# Altium schematic symbol library jlcpcb_2025_04_resistors_basic.schlib: 182 symbols (part 4 of 4)
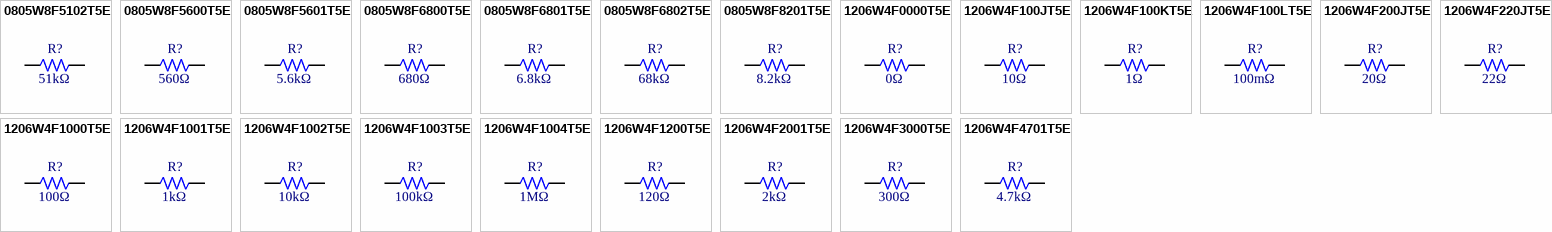
[diagram p7: symbols 0805W8F5102T5E to 1206W4F4701T5E]

## 1206W4F1004T5E
designator R?  Resistance: 1MΩ  (hidden comment: *)
Resistor, 1MΩ, ±1%, 250mW, 200V, ±100ppm/℃, -55℃~+155℃, SMD 1206; Manufacturer: Uniroyal; Manufacturer Part Number: 1206W4F1004T5E; Supplier 1: LCSC; Supplier Part Number 1: C17927; JLCPCB Part Number: C17927; Power Rating: 250mW; Category: Resistors; Package Size: 1206; JLCPCB Basic Part: Yes; Tolerance: ±1%; Voltage Rating: 200V; Temperature Coefficient: ±100ppm/℃; Temperature Rating: -55℃~+155℃; ComponentLink1Description: Datasheet; ComponentLink1URL: https://wmsc.lcsc.com/wmsc/upload/file/pdf/v2/lcsc/2206010145_UNI-ROYAL-Uniroyal-Elec-1206W4F1004T5E_C17927.pdf; ComponentLink2Description: JLCPCB Part URL; ComponentLink2URL: https://jlcpcb.com/partdetail/C17927
footprint RES-1206 (1206 (3216M) Resistor)
pins: 1, 2
1 alternate drawing of the same symbol

## 1206W4F1200T5E
designator R?  Resistance: 120Ω  (hidden comment: *)
Resistor, 120Ω, ±1%, 250mW, 200V, ±100ppm/℃, -55℃~+155℃, SMD 1206; Manufacturer: Uniroyal; Manufacturer Part Number: 1206W4F1200T5E; Supplier 1: LCSC; Supplier Part Number 1: C17909; JLCPCB Part Number: C17909; Power Rating: 250mW; Category: Resistors; Package Size: 1206; JLCPCB Basic Part: Yes; Tolerance: ±1%; Voltage Rating: 200V; Temperature Coefficient: ±100ppm/℃; Temperature Rating: -55℃~+155℃; ComponentLink1Description: Datasheet; ComponentLink1URL: https://wmsc.lcsc.com/wmsc/upload/file/pdf/v2/lcsc/2206010145_UNI-ROYAL-Uniroyal-Elec-1206W4F1200T5E_C17909.pdf; ComponentLink2Description: JLCPCB Part URL; ComponentLink2URL: https://jlcpcb.com/partdetail/C17909
footprint RES-1206 (1206 (3216M) Resistor)
pins: 1, 2
1 alternate drawing of the same symbol

## 1206W4F2001T5E
designator R?  Resistance: 2kΩ  (hidden comment: *)
Resistor, 2kΩ, ±1%, 250mW, 200V, ±100ppm/℃, -55℃~+155℃, SMD 1206; Manufacturer: Uniroyal; Manufacturer Part Number: 1206W4F2001T5E; Supplier 1: LCSC; Supplier Part Number 1: C17944; JLCPCB Part Number: C17944; Power Rating: 250mW; Category: Resistors; Package Size: 1206; JLCPCB Basic Part: Yes; Tolerance: ±1%; Voltage Rating: 200V; Temperature Coefficient: ±100ppm/℃; Temperature Rating: -55℃~+155℃; ComponentLink1Description: Datasheet; ComponentLink1URL: https://wmsc.lcsc.com/wmsc/upload/file/pdf/v2/lcsc/2206010145_UNI-ROYAL-Uniroyal-Elec-1206W4F2001T5E_C17944.pdf; ComponentLink2Description: JLCPCB Part URL; ComponentLink2URL: https://jlcpcb.com/partdetail/C17944
footprint RES-1206 (1206 (3216M) Resistor)
pins: 1, 2
1 alternate drawing of the same symbol

## 1206W4F3000T5E
designator R?  Resistance: 300Ω  (hidden comment: *)
Resistor, 300Ω, ±1%, 250mW, 200V, ±100ppm/℃, -55℃~+155℃, SMD 1206; Manufacturer: Uniroyal; Manufacturer Part Number: 1206W4F3000T5E; Supplier 1: LCSC; Supplier Part Number 1: C17887; JLCPCB Part Number: C17887; Power Rating: 250mW; Category: Resistors; Package Size: 1206; JLCPCB Basic Part: Yes; Tolerance: ±1%; Voltage Rating: 200V; Temperature Coefficient: ±100ppm/℃; Temperature Rating: -55℃~+155℃; ComponentLink1Description: Datasheet; ComponentLink1URL: https://wmsc.lcsc.com/wmsc/upload/file/pdf/v2/lcsc/2206010200_UNI-ROYAL-Uniroyal-Elec-1206W4F3000T5E_C17887.pdf; ComponentLink2Description: JLCPCB Part URL; ComponentLink2URL: https://jlcpcb.com/partdetail/C17887
footprint RES-1206 (1206 (3216M) Resistor)
pins: 1, 2
1 alternate drawing of the same symbol

## 1206W4F4701T5E
designator R?  Resistance: 4.7kΩ  (hidden comment: *)
Resistor, 4.7kΩ, ±1%, 250mW, 200V, ±100ppm/℃, -55℃~+155℃, SMD 1206; Manufacturer: Uniroyal; Manufacturer Part Number: 1206W4F4701T5E; Supplier 1: LCSC; Supplier Part Number 1: C17936; JLCPCB Part Number: C17936; Power Rating: 250mW; Category: Resistors; Package Size: 1206; JLCPCB Basic Part: Yes; Tolerance: ±1%; Voltage Rating: 200V; Temperature Coefficient: ±100ppm/℃; Temperature Rating: -55℃~+155℃; ComponentLink1Description: Datasheet; ComponentLink1URL: https://wmsc.lcsc.com/wmsc/upload/file/pdf/v2/lcsc/2206010145_UNI-ROYAL-Uniroyal-Elec-1206W4F4701T5E_C17936.pdf; ComponentLink2Description: JLCPCB Part URL; ComponentLink2URL: https://jlcpcb.com/partdetail/C17936
footprint RES-1206 (1206 (3216M) Resistor)
pins: 1, 2
1 alternate drawing of the same symbol